# EAGLE library part TDA7088T (library baiyun)
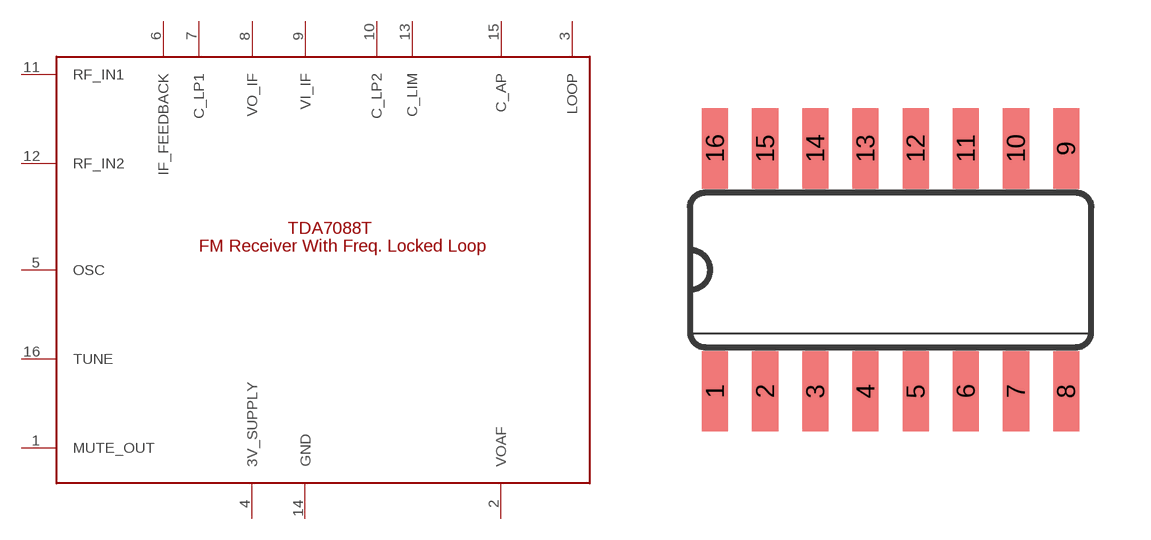
[diagram p207: symbol with the pads of SO16; footprint SO16]

Designator prefix -

## TDA7088T  [SO16]
1  MUTE_OUT
2  VOAF
3  LOOP
4  3V_SUPPLY
5  OSC
6  IF_FEEDBACK
7  C_LP1
8  VO_IF
9  VI_IF
10  C_LP2
11  RF_IN1
12  RF_IN2
13  C_LIM
14  GND
15  C_AP
16  TUNE

## Footprint SO16 (pad centres in mm)
Small Outline Package 16
smd 0.66 x 2.032: 1 -4.445,-3.073; 2 -3.175,-3.073; 3 -1.905,-3.073; 4 -0.635,-3.073; 5 0.635,-3.073; 6 1.905,-3.073; 7 3.175,-3.073; 8 4.445,-3.073; 9 4.445,3.073; 10 3.175,3.073; 11 1.905,3.073; 12 0.635,3.073; 13 -0.635,3.073; 14 -1.905,3.073; 15 -3.175,3.073; 16 -4.445,3.073